# Altium schematic symbol library M-IFA2.4G.SchLib: 1 symbol
Pins are listed as number, name and electrical type; pins without a type are passive.

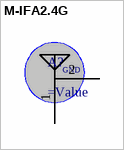
[diagram p0: symbol M-IFA2.4G]

## M-IFA2.4G
designator A?
=Description
pins: 1, 2
text: GND